# Altium footprint library inductors.PcbLib: 43 footprints (part 1 of 3)
Each footprint in its own frame and in the unit in brackets; x right, y up, seen from the top. Pads: shape width x height; smd on the part's side, far side on the other; paste and mask are expansions set on the pad; w line width, h text height; cw(c..) or ccw(c..) is an arc to the next point about the centre after c.
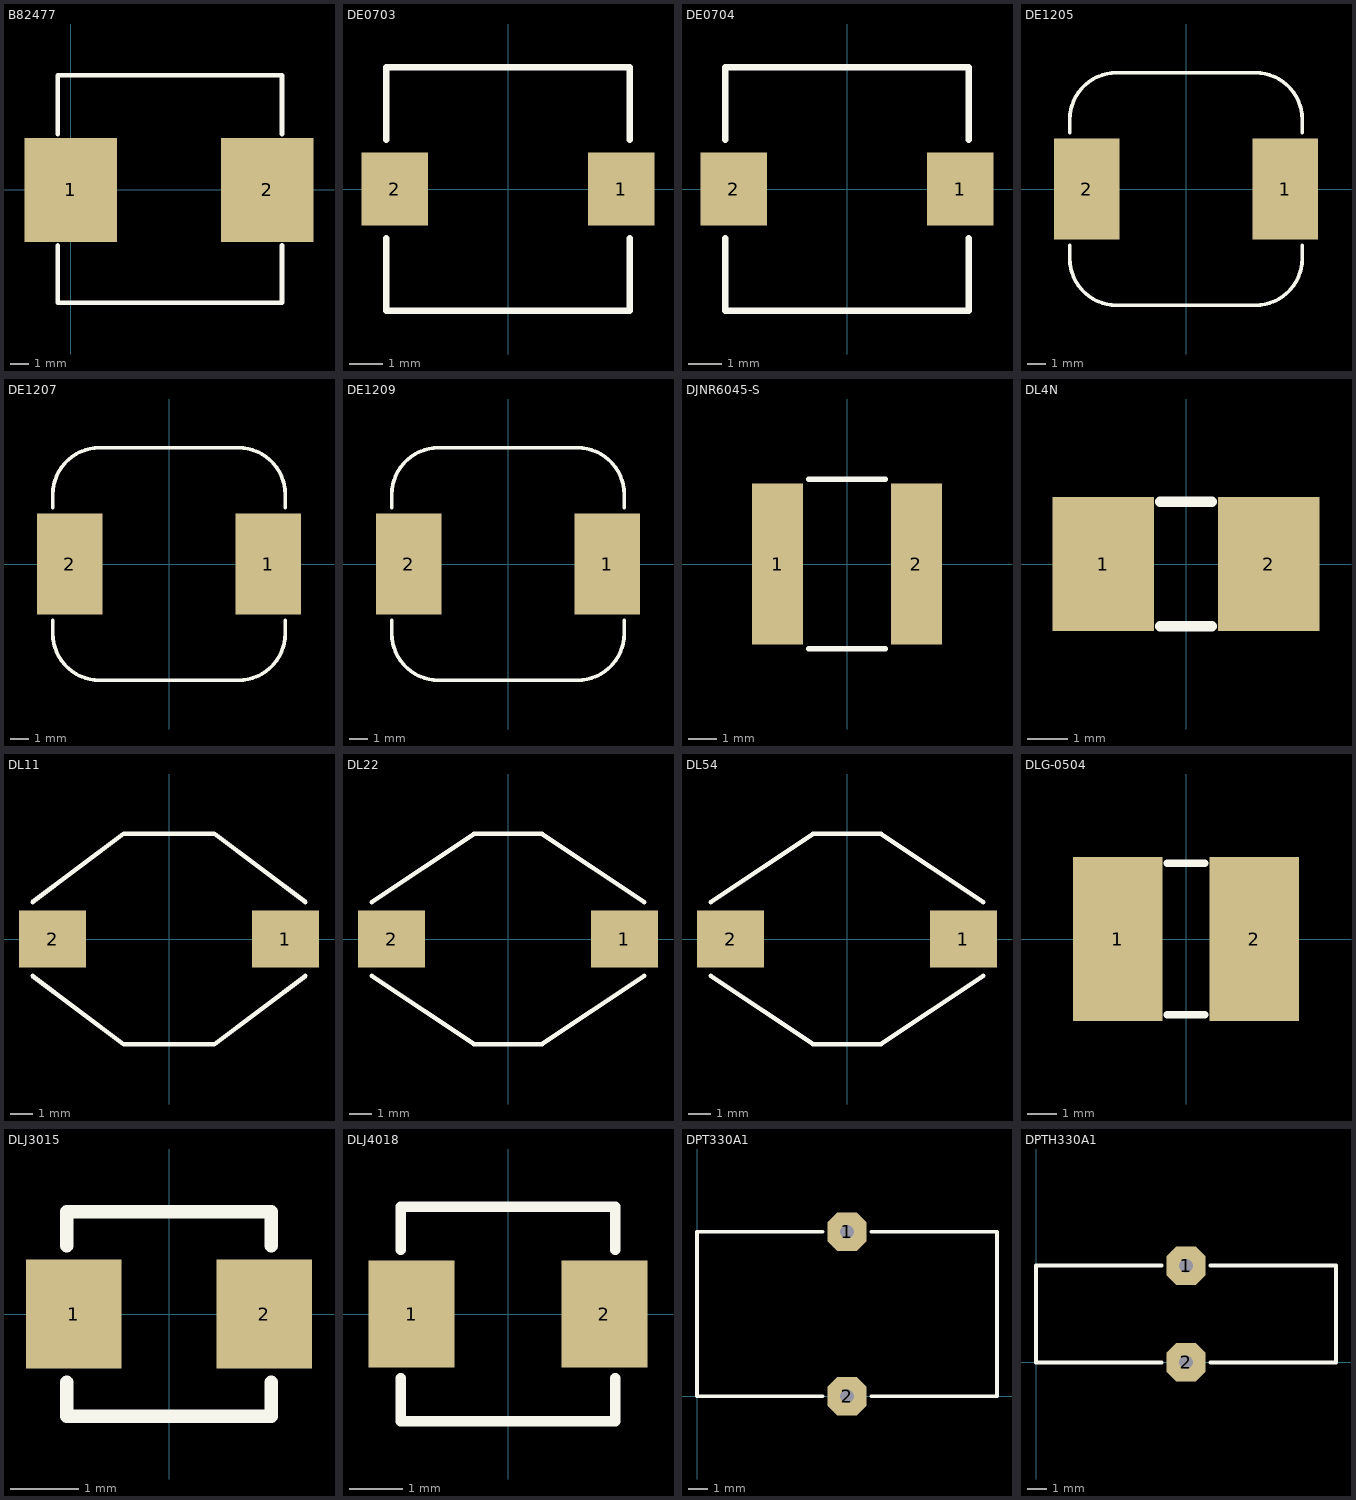
[diagram p0: the footprints below, top view; thin cyan lines are the x and y axes]

## B82477 [mm] "G4473–M"
pads (2):
  rect 5x5.6 smd: 1(0,0) 2(10.6,0)
Top Overlay:
  lines w0.254: -0.7,-3 -0.7,-6.1 11.4,-6.1 11.4,-3 ; -0.7,3 -0.7,6.2 11.4,6.2 11.4,3

## DE0703 [mm] "FERROCORE DE0703 (7.3x7.3mm)"
height 3.2
pads (2):
  rect 2x2.2 smd: 1(3.4,0) 2(-3.4,0)
Top Overlay:
  lines w0.2: -3.65,-1.475 -3.65,-3.65 3.65,-3.65 3.65,-1.475 ; -3.65,1.475 -3.65,3.65 3.65,3.65 3.65,1.475
3D body: height 3.4, standoff 0, extent -3.65,-3.65 3.65,3.65

## DE0704 [mm] "FERROCORE DE0703 (7.3x7.3mm)"
height 4.5
pads (2):
  rect 2x2.2 smd: 1(3.4,0) 2(-3.4,0)
Top Overlay:
  lines w0.2: -3.65,-1.475 -3.65,-3.65 3.65,-3.65 3.65,-1.475 ; -3.65,1.475 -3.65,3.65 3.65,3.65 3.65,1.475
3D body: height 4.8, standoff 0, extent -3.65,-3.65 3.65,3.65

## DE1205 [mm] "FERROCORE DE1205 (12x12mm)"
height 6
pads (2):
  rect 3.5x5.4 smd: 1(5.3,0) 2(-5.3,0)
Top Overlay:
  lines w0.2: -6.2,-3.7 -6.2,-3 ; -6.2,3 -6.2,3.7 ; -6.199,-3.7 ccw(c-3.7,-3.7) -3.7,-6.199 ; -6.199,3.7 cw(c-3.7,3.7) -3.7,6.199 ; -3.7,-6.2 3.7,-6.2 ; -3.7,6.2 3.7,6.2 ; 3.7,-6.199 ccw(c3.7,-3.7) 6.199,-3.7 ; 3.7,6.199 cw(c3.7,3.7) 6.199,3.7 ; 6.2,-3.7 6.2,-3 ; 6.2,3 6.2,3.7
3D body "Coilcraft-MSS1260T.step": height 6.2, standoff -0.04, extent -6.15,-6.15 6.15,6.15

## DE1207 [mm] "FERROCORE DE1207 (12x12mm)"
height 8
pads (2):
  rect 3.5x5.4 smd: 1(5.3,0) 2(-5.3,0)
Top Overlay:
  lines w0.2: -6.2,-3.7 -6.2,-3 ; -6.2,3 -6.2,3.7 ; -6.199,-3.7 ccw(c-3.7,-3.7) -3.7,-6.199 ; -6.199,3.7 cw(c-3.7,3.7) -3.7,6.199 ; -3.7,-6.2 3.7,-6.2 ; -3.7,6.2 3.7,6.2 ; 3.7,-6.199 ccw(c3.7,-3.7) 6.199,-3.7 ; 3.7,6.199 cw(c3.7,3.7) 6.199,3.7 ; 6.2,-3.7 6.2,-3 ; 6.2,3 6.2,3.7
3D body "Coilcraft-MSS1278.step": height 8.1, standoff 0.01, extent -6.15,-6.15 6.15,6.15

## DE1209 [mm] "FERROCORE DE1209 (12x12mm)"
height 10
pads (2):
  rect 3.5x5.4 smd: 1(5.3,0) 2(-5.3,0)
Top Overlay:
  lines w0.2: -6.2,-3.7 -6.2,-3 ; -6.2,3 -6.2,3.7 ; -6.199,-3.7 ccw(c-3.7,-3.7) -3.7,-6.199 ; -6.199,3.7 cw(c-3.7,3.7) -3.7,6.199 ; -3.7,-6.2 3.7,-6.2 ; -3.7,6.2 3.7,6.2 ; 3.7,-6.199 ccw(c3.7,-3.7) 6.199,-3.7 ; 3.7,6.199 cw(c3.7,3.7) 6.199,3.7 ; 6.2,-3.7 6.2,-3 ; 6.2,3 6.2,3.7
3D body "Coilcraft-MSS1210.step": height 10.21, standoff 0.01, extent -6.15,-6.15 6.15,6.15

## DJNR6045-S [mm]
height 4.5
pads (2):
  rect 1.8x5.7 smd: 1(-2.45,0) 2(2.45,0)
Top Overlay:
  lines w0.2: -1.35,-3 1.35,-3 ; -1.35,3 1.35,3

## DL4N [mm]
pads (2):
  rect 2.5x3.3 smd: 1(-2.032,0) 2(2.032,0)
Top Overlay:
  lines w0.254: -0.635,-1.524 0.635,-1.524 ; -0.635,1.524 0.635,1.524

## DL11 [mm] "FERROCORE DL22 (12.95x9.40mm) eq. to DO3308P"
height 3
pads (2):
  rect 3x2.54 smd: 1(5.207,0) 2(-5.207,0)
Top Overlay:
  lines w0.2: -6.096,-1.651 -2.032,-4.699 2.032,-4.699 6.096,-1.651 ; -6.096,1.651 -2.032,4.699 2.032,4.699 6.096,1.651
3D body "Coilcraft-DO3308.step": height 2.69, standoff -0.13, extent -6.222,-4.7 6.222,4.7

## DL22 [mm] "FERROCORE DL22 (12.95x9.40mm) eq. to DO3316P"
height 5.21
pads (2):
  rect 3x2.54 smd: 1(5.207,0) 2(-5.207,0)
Top Overlay:
  lines w0.2: -6.096,-1.651 -1.524,-4.699 1.524,-4.699 6.096,-1.651 ; -6.096,1.651 -1.524,4.699 1.524,4.699 6.096,1.651
3D body "Coilcraft-DO3316P.step": height 5.21, standoff 0, extent -6.187,-4.7 6.187,4.7

## DL54 [mm] "FERROCORE DL54 (18.54x15.24mm) eq. to DO5022P"
height 7.11
pads (2):
  rect 3x2.54 smd: 1(5.207,0) 2(-5.207,0)
Top Overlay:
  lines w0.2: -6.096,-1.651 -1.524,-4.699 1.524,-4.699 6.096,-1.651 ; -6.096,1.651 -1.524,4.699 1.524,4.699 6.096,1.651
3D body "Coilcraft-DO5022P.step": height 7, standoff -0.1, extent -9.933,-6.604 8.101,8.128

## DLG-0504 [mm]
pads (2):
  rect 3x5.5 smd: 1(-2.286,0) 2(2.286,0)
Top Overlay:
  lines w0.254: -0.635,-2.54 0.635,-2.54 ; -0.635,2.54 0.635,2.54
3D body: height 4.5, standoff 0, extent -3,-2.75 3,2.75

## DLJ3015 [mm] "DLJ Series Ultra Low Profile Power Inductor"
height 1.5
pads (2):
  rect 1.4x1.6 smd: 1(-1.4,0) 2(1.4,0)
Top Overlay:
  lines w0.2: -1.5,-1 -1.5,-1.5 1.5,-1.5 1.5,-1 ; -1.5,1 -1.5,1.5 1.5,1.5 1.5,1
3D body: height 1.5, standoff 0, extent -1.5,-1.5 1.5,1.5

## DLJ4018 [mm] "DLJ Series Ultra Low Profile Power Inductor"
height 1.8
pads (2):
  rect 1.6x2 smd: 1(-1.8,0) 2(1.8,0)
Top Overlay:
  lines w0.2: -2,-1.2 -2,-2 2,-2 2,-1.2 ; -2,1.2 -2,2 2,2 2,1.2
3D body: height 1.8, standoff 0, extent -2,-2 2,2

## DPT330A1 [mm] "DPT type FERROCORE WOUND TOROIDS COIL"
height 15.5
pads (2):
  oct 2x2 hole 0.7: 1(7.75,8.5) 2(7.75,0)
Top Overlay:
  lines w0.2: 6.5,0 0,0 0,8.5 6.5,8.5 ; 9,0 15.5,0 15.5,8.5 9,8.5

## DPTH330A1 [mm] "DPTH type FERROCORE WOUND TOROIDS COIL"
height 8.5
pads (2):
  oct 2x2 hole 0.7: 1(7.75,5) 2(7.75,0)
Top Overlay:
  lines w0.2: 6.5,0 0,0 0,5 6.5,5 ; 9,0 15.5,0 15.5,5 9,5